# Altium integrated library CherryMXLib.IntLib: 1 symbol
Pins are listed as number, name and electrical type; pins without a type are passive.

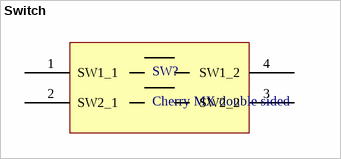
[diagram p0: symbol Switch]

## Switch
designator SW?, comment Cherry MX double sided
footprint CherryMX Switch (Double-sided footprint for a Cherry MX switch)
pins: 1 SW1_1, 2 SW2_1, 3 SW2_2, 4 SW1_2